# Altium schematic symbol library SMBJ28A.SchLib: 1 symbol
Pins are listed as number, name and electrical type; pins without a type are passive.

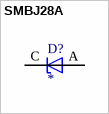
[diagram p0: symbol SMBJ28A]

## SMBJ28A
designator D?
45.5V Clamp 13.2A Ipp Tvs Diode Surface Mount DO-214AA (SMBJ); MP: SMBJ28A; MF: Vishay Semiconductor; Value: *; SnapEDA_Link: https://www.snapeda.com/parts/SMBJ28A/Vishay/view-part/?ref=snap; Price: None; Package: DO-214 Vishay; Check_prices: https://www.snapeda.com/parts/SMBJ28A/Vishay/view-part/?ref=eda; Availability: In Stock
footprint DIOM5436X244N
pins: A, C